# EAGLE library part TSSOP24 (library PCA9548A)
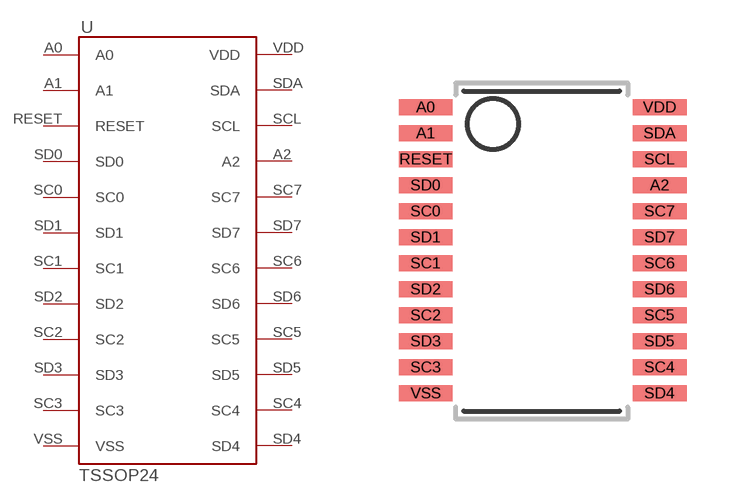
[diagram p0: symbol with the pads of TSSOP24; footprint TSSOP24]

Designator prefix -

## TSSOP24A  [TSSOP24]
A0  A0
A1  A1
A2  A2
RESET  RESET
SC0  SC0
SC1  SC1
SC2  SC2
SC3  SC3
SC4  SC4
SC5  SC5
SC6  SC6
SC7  SC7
SCL  SCL
SD0  SD0
SD1  SD1
SD2  SD2
SD3  SD3
SD4  SD4
SD5  SD5
SD6  SD6
SD7  SD7
SDA  SDA
VDD  VDD
VSS  VSS

## Footprint TSSOP24 (pad centres in mm)
smd 1.35 x 0.4: A0 -2.95,3.6; A1 -2.95,2.95; A2 2.9,1.65; RESET -2.95,2.3; SC0 -2.95,1; SC1 -2.95,-0.3; SC2 -2.95,-1.6; SC3 -2.95,-2.9; SC4 2.9,-2.9; SC5 2.9,-1.6; SC6 2.9,-0.3; SC7 2.9,1; SCL 2.9,2.3; SD0 -2.95,1.65; SD1 -2.95,0.35; SD2 -2.95,-0.95; SD3 -2.95,-2.25; SD4 2.9,-3.55; SD5 2.9,-2.25; SD6 2.9,-0.95; SD7 2.9,0.35; SDA 2.9,2.95; VDD 2.9,3.6; VSS -2.95,-3.55